# EAGLE library part SA10-21SRWA (library MSTFSAE-LED)
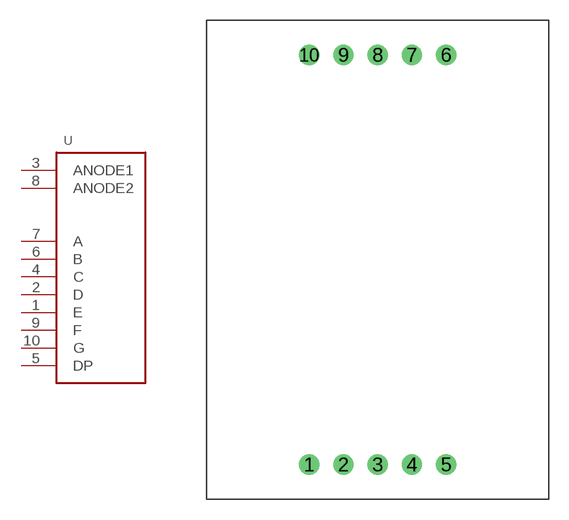
[diagram p1: symbol with the pads of SA10-21SRWA; footprint SA10-21SRWA]

Designator prefix -

## SA10-21SRWA  [SA10-21SRWA]
1  E
2  D
3  ANODE1
4  C
5  DP
6  B
7  A
8  ANODE2
9  F
10  G

## Footprint SA10-21SRWA (pad centres in mm)
drill 1: 1 -5.08,-15.202; 2 -2.54,-15.202; 3 0,-15.202; 4 2.54,-15.202; 5 5.08,-15.202; 6 5.08,15.202; 7 2.54,15.202; 8 0,15.202; 9 -2.54,15.202; 10 -5.08,15.202